# EAGLE library part PAM8302A (library FUCK)
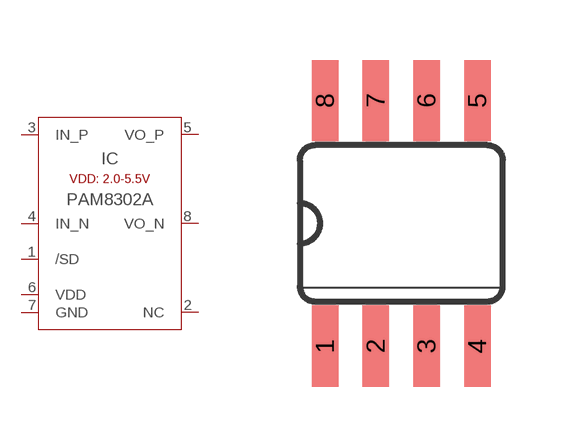
[diagram p0: symbol with the pads of SOIC-8; footprint SOIC-8]

Designator prefix IC

## PAM8302A  [SOIC-8]
1  /SD
2  NC
3  IN_P
4  IN_N
5  VO_P
6  VDD
7  GND
8  VO_N

## Footprint SOIC-8 (pad centres in mm)
Small Outline package 8 150 mil
smd 0.66 x 2.032: 1 -1.905,-3.073; 2 -0.635,-3.073; 3 0.635,-3.073; 4 1.905,-3.073; 5 1.905,3.073; 6 0.635,3.073; 7 -0.635,3.073; 8 -1.905,3.073